# Altium schematic symbol library Connectors-USB.SchLib: 2 symbols
Pins are listed as number, name and electrical type; pins without a type are passive.

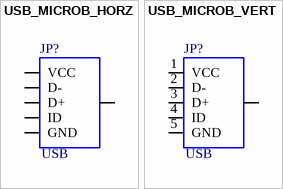
[diagram p0: symbols USB_MICROB_HORZ to USB_MICROB_VERT]

## USB_MICROB_HORZ
designator JP?, comment USB
PartNumber: 10118192-0001LF; Manufacturer: Amphenol FCI; Mounting Technology: Surface Mount; PackageReference: USB - Micro B
footprint USB-MICROB_HORZ; pin to pad MT1>MT1+P$1+P$2+MT2
pins: D+, D-, GND, ID, MT1 SHIELD, VBUS VCC

## USB_MICROB_VERT
designator JP?, comment USB
PartNumber: 614105150721; Manufacturer: Wurth Electronics; Mounting Technology: Through Hole; PackageReference: USB - Micro B
footprint USB_MICROB_VERT (Micro USB 2.0 Type B Vertical 5 Contacts 614105150721)
pins: 1 VCC, 2 D-, 3 D+, 4 ID, 5 GND, 6 SHIELD